# Altium footprint library SebVLibr.PcbLib: 85 footprints (part 5 of 6)
Each footprint in its own frame and in the unit in brackets; x right, y up, seen from the top. Pads: shape width x height; smd on the part's side, far side on the other; paste and mask are expansions set on the pad; w line width, h text height; cw(c..) or ccw(c..) is an arc to the next point about the centre after c.
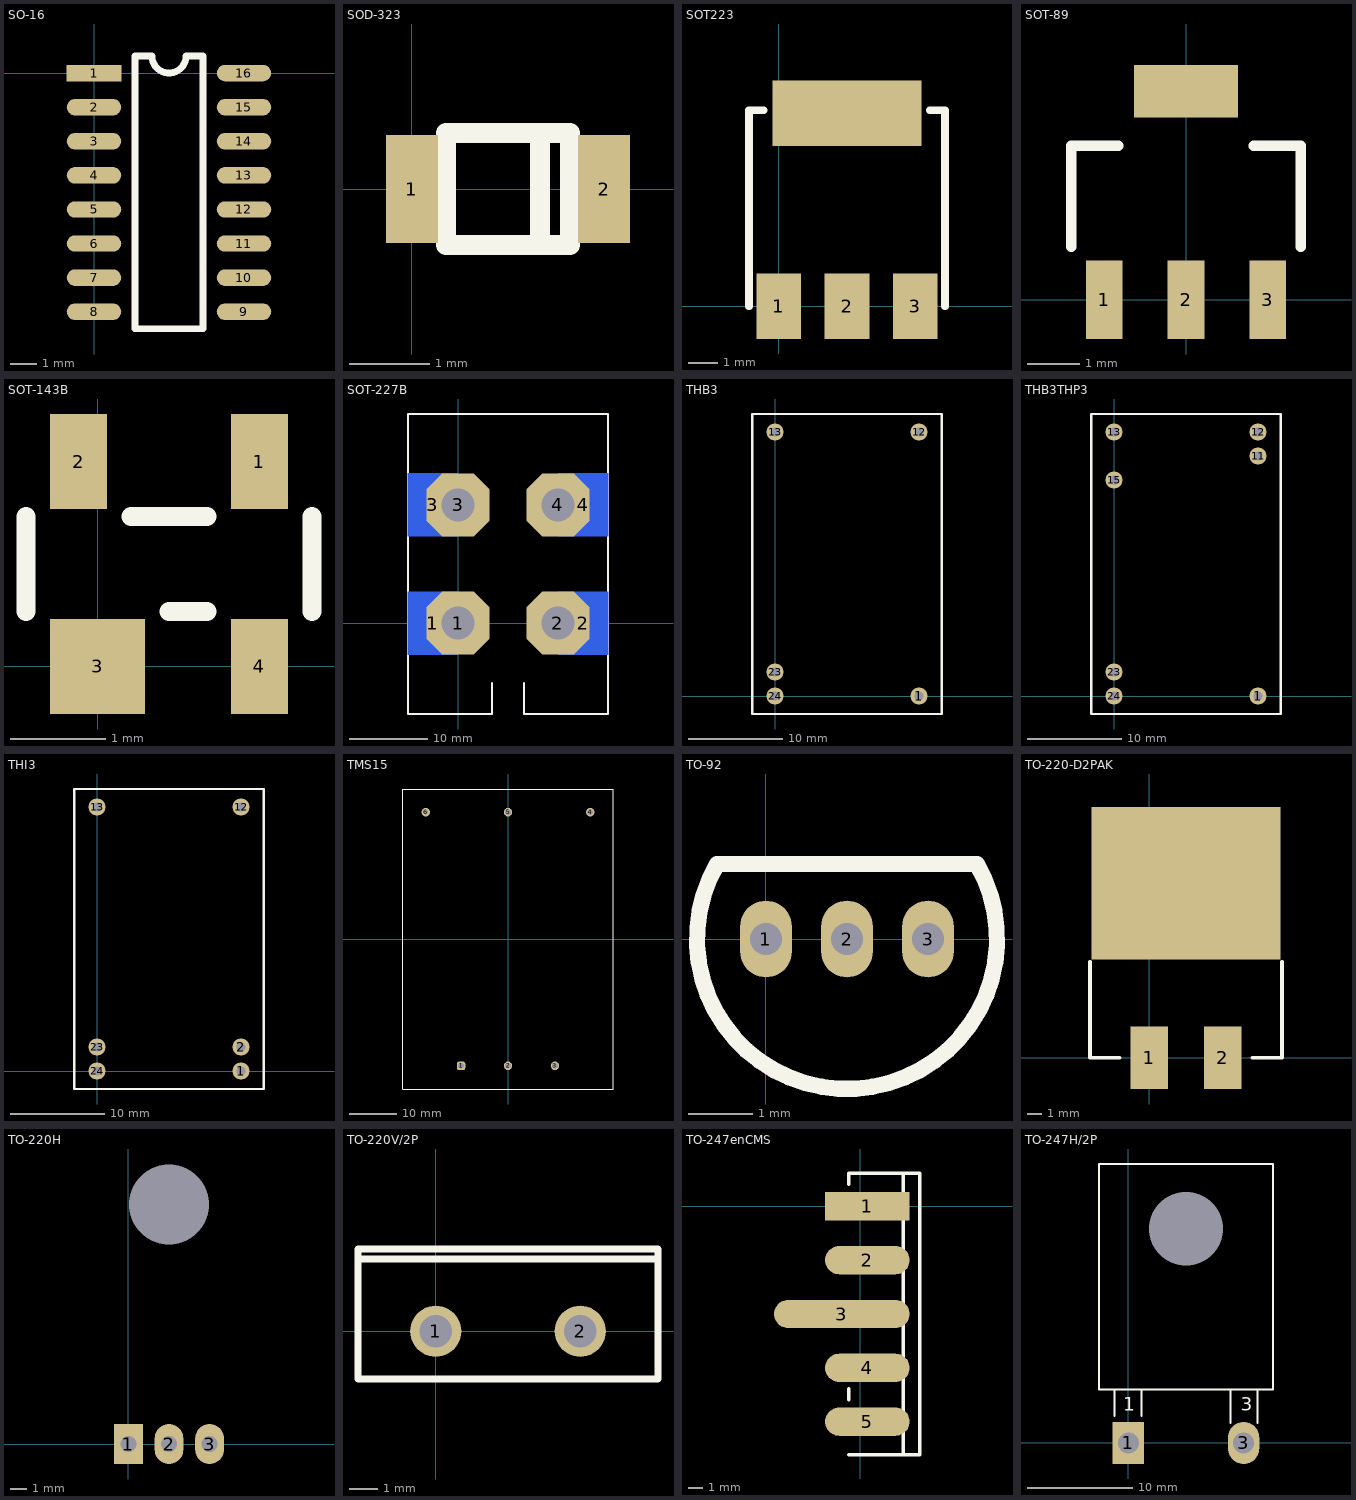
[diagram p4: the footprints below, top view; thin cyan lines are the x and y axes]

## SO-16 [mil]
pads (16):
  rect 80x24 smd: 1(0,0)
  oval 80x24 smd: 2(0,-50) 3(0,-100) 4(0,-150) 5(0,-200) 6(0,-250) 7(0,-300) 8(0,-350) 9(220,-350) 10(220,-300) 11(220,-250) 12(220,-200) 13(220,-150) 14(220,-100) 15(220,-50) 16(220,0)
Top Overlay:
  lines w10: 60,-375 60,25 85,25 ccw(c110,25) 135,25 160,25 160,-375 60,-375
3D body: height 69.88, standoff 0.46, extent -14.8,-371.26 226.81,21.26

## SOD-323 [mm]
pads (2):
  rect 0.65x1.35 smd: 1(0,0) 2(2.4,0)
Top Overlay:
  lines w0.25: 0.425,-0.7 0.425,0.7 ; 1.975,-0.7 1.975,0.7
  lines w0.254: 0.425,-0.7 1.975,-0.7 ; 0.425,0.7 1.975,0.7 ; 1.6,-0.7 1.6,0.7

## SOT223 [mm]
pads (4):
  rect 1.5x2.2 smd: 1(0,0) 2(2.3,0) 3(4.6,0)
  rect 5x2.2 smd: ""(2.3,6.5)
Top Overlay:
  lines w0.254: -1,0 -1,6.604 -0.508,6.604 ; 5.08,6.604 5.6,6.604 5.6,0
3D body: height 1.64, standoff -0.01, extent -0.95,-0.198 5.55,6.802

## SOT-89 [mm]
pads (4):
  rect 0.7x1.5 smd: 1(-1.57,0) 2(0,0) 3(1.57,0)
  rect 2x1 smd: ""(0,4)
Top Overlay:
  lines w0.2: -2.2,1.016 -2.2,2.95 -1.3,2.95 ; 1.3,2.95 2.2,2.95 2.2,1.016
3D body: height 1.51, standoff 0, extent -2.25,-0.101 2.25,4.199

## SOT-143B [mm]
pads (4):
  rect 0.6x1 smd: 1(1.7,2.15) 2(-0.2,2.15) 4(1.7,0)
  rect 1x1 smd: 3(0,0)
Top Overlay:
  lines w0.2: -0.75,0.575 -0.75,1.575 ; 0.35,1.575 1.15,1.575 ; 0.75,0.575 1.15,0.575 ; 2.25,0.575 2.25,1.575

## SOT-227B [mm]
height 12
pads (8):
  rect 6.3x8 smd far side: 1(-3.2,0) 2(15.9,0) 3(-3.2,15.011) 4(15.9,15.011)
  oct 8x8 hole 4.2: 1(0,0) 2(12.7,0) 3(0,15.011) 4(12.7,15.011)
Top Overlay:
  lines w0.254: 4.3,-11.544 -6.36,-11.544 -6.36,26.556 19.06,26.556 19.06,-11.544 8.4,-11.544 ; 4.3,-11.526 4.3,-7.607 ; 8.4,-11.526 8.4,-7.607
Bottom Overlay:
  circle w0.254: c6.35,22.619 r2.05
  lines w0.254: 4.3,-7.607 cw(c6.35,-7.607) 8.4,-7.607

## THB3 [mm] "Traco"
height 10.16
pads (5):
  round 1.8 hole 1: 1(15.24,0) 12(15.24,27.94) 13(0,27.94) 23(0,2.54) 24(0,0)
Top Overlay:
  lines w0.254: -2.413,-1.905 17.653,-1.905 17.653,29.845 -2.413,29.845 -2.413,-1.905

## THB3THP3 [mm] "Traco"
height 10.16
pads (7):
  round 1.8 hole 1: 1(15.24,0) 11(15.24,25.4) 12(15.24,27.94) 13(0,27.94) 15(0,22.86) 23(0,2.54) 24(0,0)
Top Overlay:
  lines w0.254: -2.413,-1.905 17.653,-1.905 17.653,29.845 -2.413,29.845 -2.413,-1.905

## THI3 [mm] "Traco"
height 10.16
pads (6):
  round 1.8 hole 1: 1(15.24,0) 2(15.24,2.54) 12(15.24,27.94) 13(0,27.94) 23(0,2.54) 24(0,0)
Top Overlay:
  lines w0.254: -2.413,-1.905 -2.413,29.845 17.653,29.845 17.653,-1.905 -2.413,-1.905

## TMS15 [mm] "Alim"
height 24
pads (6):
  rrect50% 1.8x1.8 hole 1.2: 1(-10,-27)
  round 1.8 hole 1.2: 2(0,-27) 3(10,-27) 4(17.5,27) 5(0,27)
  round 1.8 hole 1: 6(-17.5,27)
Top Overlay:
  lines w0.15: -22.43,-31.93 -22.43,31.93 22.43,31.93 22.43,-31.93 -22.43,-31.93
3D body: height 24, standoff 0, extent -22.505,-32.005 22.505,32.005

## TO-92 [mm]
pads (3):
  oval 0.81x1.2 hole 0.5: 1(0,0) 2(1.27,0) 3(2.54,0)
Top Overlay:
  lines w0.254: -0.765,1.175 ccw(c1.27,0) 3.305,1.175 -0.765,1.175
3D body: height 5.25, standoff -8.95, extent -1.112,-2.349 3.683,1.651

## TO-220-D2PAK [mm] "CMS"
pads (3):
  rect 2.58x4.31 smd: 1(0,0) 2(5.08,0)
  rect 13x10.5 smd: ""(2.54,12)
Top Overlay:
  lines w0.254: -4.064,6.604 -4.064,0 -2.032,0 ; 7.112,0 9.144,0 9.144,6.604

## TO-220H [mm]
pads (4):
  rect 1.8x2.5 hole 1: 1(0,0)
  oval 1.8x2.5 hole 1: 2(2.54,0) 3(5.08,0)
  round 0 hole 5: ""(2.54,15)
Bottom Overlay:
  lines w0.3: 0,1.778 0,2.3 ; 0.635,17.54 -2.54,17.54 -2.54,16.27 -1.27,16.27 -1.27,13.73 -2.54,13.73 -2.54,2.3 7.62,2.3 7.62,13.73 6.35,13.73 6.35,16.27 7.62,16.27 7.62,17.54 4.445,17.54 ; 2.54,1.778 2.54,2.3 ; 5.08,1.778 5.08,2.3

## TO-220V/2P [mm] "vertical"
height 19.5
pads (2):
  round 1.8 hole 1.15: 1(0,0) 2(5.08,0)
Top Overlay:
  lines w0.254: -2.73,2.54 7.81,2.54 ; -2.73,-1.68 -2.73,2.89 7.81,2.89 7.81,-1.68 -2.73,-1.68

## TO-247enCMS [mm]
pads (5):
  rect 6x2 smd: 1(0.5,0)
  oval 6x2 smd: 2(0.5,-3.81) 4(0.5,-11.43) 5(0.5,-15.24)
  oval 9.6x2 smd: 3(-1.3,-7.62)
Top Overlay:
  lines w0.254: -0.8,-17.575 4.23,-17.575 4.23,2.335 -0.8,2.335 -0.8,1.562 ; -0.8,-13.678 -0.8,-12.905 ; 3.048,-17.575 3.048,2.335

## TO-247H/2P [mm] "Diode TO247 deux pattes"
pads (3):
  rect 3x4 hole 2: 1(0,0)
  oval 3x4 hole 2: 3(10.922,0)
  round 0 hole 7: ""(5.461,20.32)
Top Overlay:
  lines w0.2: -1.312,2.54 -1.312,5.08 ; 1.228,2.54 1.228,5.08 ; 9.694,1.905 9.694,5.08 ; 12.234,1.905 12.234,5.08 ; -2.794,5.08 -2.794,26.458 13.716,26.458 13.716,5.08 -2.794,5.08
  text "3" at 10.668,3.048 h1.27
  text "1" at -0.508,3.048 h1.27